# Altium footprint library CopterControl 3D.PcbLib: 19 footprints (part 2 of 2)
Each footprint in its own frame and in the unit in brackets; x right, y up, seen from the top. Pads: shape width x height; smd on the part's side, far side on the other; paste and mask are expansions set on the pad; w line width, h text height; cw(c..) or ccw(c..) is an arc to the next point about the centre after c.
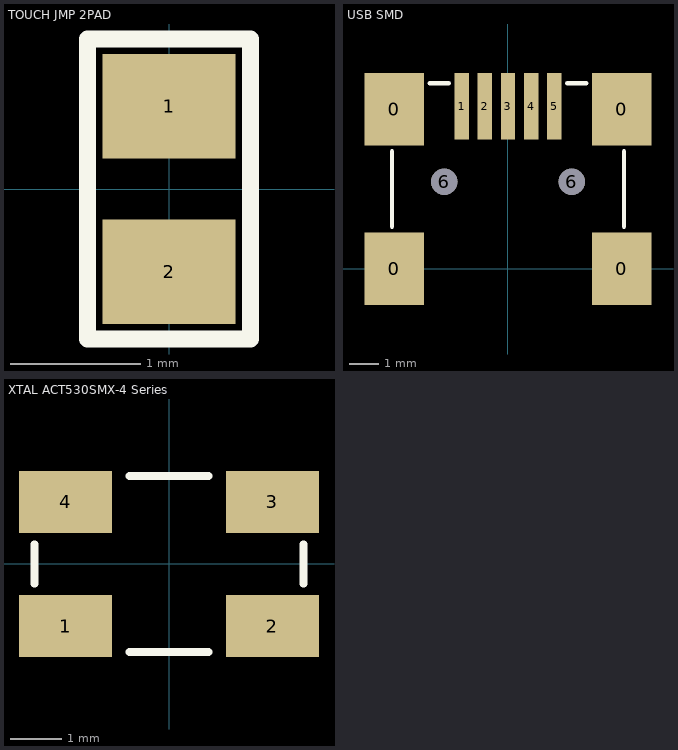
[diagram p1: the footprints below, top view; thin cyan lines are the x and y axes]

## TOUCH JMP 2PAD [mil] "Touch Jumper 2 Pad"
height 39.37
pads (2):
  rect 40x31.5 smd mask+0: 1(0,25) 2(0,-25)
Top Overlay:
  lines w5: -24.61,-45.27 24.61,-45.27 24.61,45.27 -24.61,45.27 -24.61,-45.27

## USB SMD [mm] "DX2R005HN2E700"
height 3.95
pads (11):
  rect 2.05x2.5 smd: 0(-3.925,0) 0(-3.925,5.5) 0(3.925,0) 0(3.925,5.5)
  rect 0.5x2.3 smd mask+0.085: 1(-1.6,5.6) 2(-0.8,5.6) 3(0,5.6) 4(0.8,5.6) 5(1.6,5.6)
  round 0.9 hole 0.9 unplated: 6(-2.2,3) 6(2.2,3)
Top Overlay:
  lines w0.15: -4,1.45 -4,4.05 ; -2.7,6.4 -2.05,6.4 ; 2.05,6.4 2.7,6.4 ; 4,1.45 4,4.05
3D body: height 4.17, standoff -0.92, extent -4.95,-2.85 4.95,6.35

## XTAL ACT530SMX-4 Series [mm] "ACT530SMX-4Series from ACT"
height 0.76
pads (4):
  rect 1.8x1.2 smd: 1(-2,-1.2) 2(2,-1.2) 3(2,1.2) 4(-2,1.2)
Top Overlay:
  lines w0.15: -2.6,-0.381 -2.6,0.381 ; 2.6,-0.381 2.6,0.381
  lines w0.152: -0.762,-1.698 0.762,-1.698 ; -0.762,1.702 0.762,1.702
3D body: height 1, standoff 0, extent -2.5,-1.6 2.5,1.6